# Altium schematic symbol library EL-sense_Switch_ICs.SchLib: 6 symbols
Pins are listed as number, name and electrical type; pins without a type are passive.

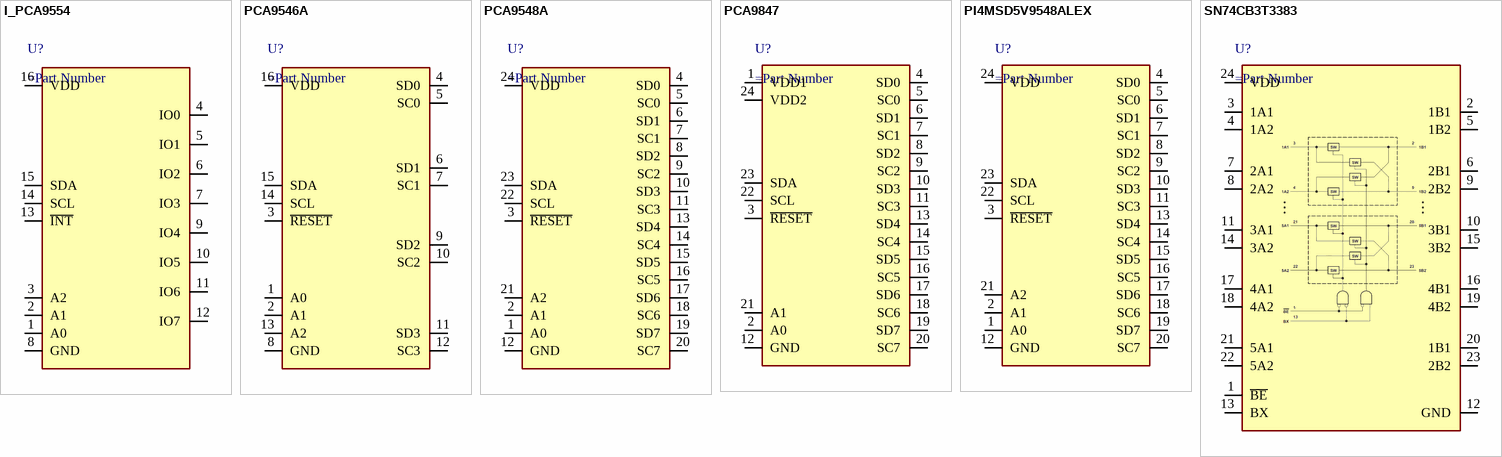
[diagram p0: symbols I_PCA9554 to SN74CB3T3383]

## I_PCA9554
designator U?
pins: 1 A0, 2 A1, 3 A2, 4 IO0 (io), 5 IO1 (io), 6 IO2 (io), 7 IO3 (io), 8 GND, 9 IO4 (io), 10 IO5 (io), 11 IO6 (io), 12 IO7 (io), 13 ~{INT}, 14 SCL, 15 SDA, 16 VDD

## PCA9546A
designator U?
pins: 1 A0, 2 A1, 3 ~{RESET}, 4 SD0, 5 SC0, 6 SD1, 7 SC1, 8 GND, 9 SD2, 10 SC2, 11 SD3, 12 SC3, 13 A2, 14 SCL, 15 SDA, 16 VDD

## PCA9548A
designator U?
pins: 1 A0, 2 A1, 3 ~{RESET}, 4 SD0, 5 SC0, 6 SD1, 7 SC1, 8 SD2, 9 SC2, 10 SD3, 11 SC3, 12 GND, 13 SD4, 14 SC4, 15 SD5, 16 SC5, 17 SD6, 18 SC6, 19 SD7, 20 SC7, 21 A2, 22 SCL, 23 SDA, 24 VDD

## PCA9847
designator U?
pins: 1 VDD1, 2 A0, 3 ~{RESET}, 4 SD0, 5 SC0, 6 SD1, 7 SC1, 8 SD2, 9 SC2, 10 SD3, 11 SC3, 12 GND, 13 SD4, 14 SC4, 15 SD5, 16 SC5, 17 SD6, 18 SC6, 19 SD7, 20 SC7, 21 A1, 22 SCL, 23 SDA, 24 VDD2

## PI4MSD5V9548ALEX
designator U?
pins: 1 A0, 2 A1, 3 ~{RESET}, 4 SD0, 5 SC0, 6 SD1, 7 SC1, 8 SD2, 9 SC2, 10 SD3, 11 SC3, 12 GND, 13 SD4, 14 SC4, 15 SD5, 16 SC5, 17 SD6, 18 SC6, 19 SD7, 20 SC7, 21 A2, 22 SCL, 23 SDA, 24 VDD

## SN74CB3T3383
designator U?
pins: 1 ~{BE}, 2 1B1, 3 1A1, 4 1A2, 5 1B2, 6 2B1, 7 2A1, 8 2A2, 9 2B2, 10 3B1, 11 3A1, 12 GND, 13 BX, 14 3A2, 15 3B2, 16 4B1, 17 4A1, 18 4A2, 19 4B2, 20 1B1, 21 5A1, 22 5A2, 23 2B2, 24 VDD